# Altium footprint library CONV_LMR51450FNDRRR.PcbLib: 1 footprints
Each footprint in its own frame and in the unit in brackets; x right, y up, seen from the top. Pads: shape width x height; smd on the part's side, far side on the other; paste and mask are expansions set on the pad; w line width, h text height; cw(c..) or ccw(c..) is an arc to the next point about the centre after c.
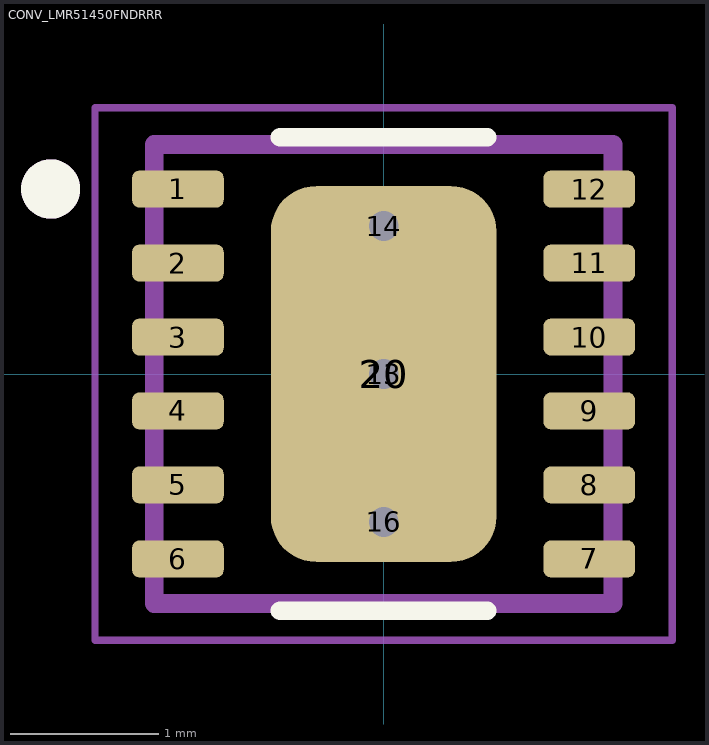
[diagram p0: the footprint, top view; thin cyan lines are the x and y axes]

## CONV_LMR51450FNDRRR [mm]
height 0.8
pads (16):
  rrect40% 0.62x0.25 smd mask+0: 1(-1.39,1.25) 2(-1.39,0.75) 3(-1.39,0.25) 4(-1.39,-0.25) 5(-1.39,-0.75) 6(-1.39,-1.25) 7(1.39,-1.25) 8(1.39,-0.75) 9(1.39,-0.25) 10(1.39,0.25) 11(1.39,0.75) 12(1.39,1.25)
  round 0.3 hole 0.2 mask+0: 13(0,0) 14(0,1) 16(0,-1)
  rrect40% 1.524x2.54 smd mask+0: 20(0,0)
Top Overlay:
  circle w0.2: c-2.25,1.25 r0.1
  lines w0.127: -0.7,-1.6 0.7,-1.6 ; -0.7,1.6 0.7,1.6
Top Paste:
  drawing of 2 lines, arcs and shapes, not listed
Top Solder:
  drawing of 13 lines, arcs and shapes, not listed
Mechanical 13:
  circle w0.2: c-2.25,1.25 r0.1
  lines w0.127: -1.55,-1.55 1.55,-1.55 1.55,1.55 -1.55,1.55 -1.55,-1.55
Mechanical 15:
  lines w0.05: -1.95,-1.8 -1.95,1.8 1.95,1.8 1.95,-1.8 -1.95,-1.8